# Altium footprint library DIO_SS310.PcbLib: 1 footprints
Each footprint in its own frame and in the unit in brackets; x right, y up, seen from the top. Pads: shape width x height; smd on the part's side, far side on the other; paste and mask are expansions set on the pad; w line width, h text height; cw(c..) or ccw(c..) is an arc to the next point about the centre after c.
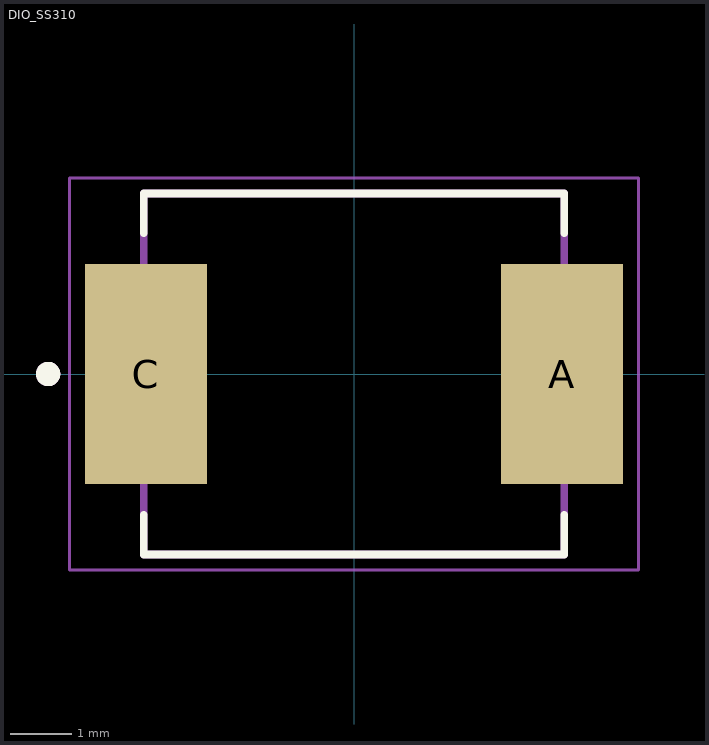
[diagram p0: the footprint, top view; thin cyan lines are the x and y axes]

## DIO_SS310 [mm]
height 2.65
pads (2):
  rect 2x3.6 smd paste+0 mask+0.102: A(3.4,0) C(-3.4,0)
Top Overlay:
  circle w0.2: c-5,0 r0.1
  lines w0.127: -3.437,-2.3 -3.437,-2.95 3.437,-2.95 3.437,-2.3 ; -3.437,2.3 -3.437,2.95 3.437,2.95 3.437,2.3
Assembly Top:
  circle w0.2: c-5,0 r0.1
  lines w0.127: -3.437,-2.95 -3.437,2.95 3.437,2.95 3.437,-2.95 -3.437,-2.95
Courtyard Top:
  lines w0.05: -4.65,-3.2 -4.65,3.2 4.65,3.2 4.65,-3.2 -4.65,-3.2
3D body "step_temp.STEP": height 2.22, standoff 0.02, extent -3.95,-2.879 3.95,2.921